# EAGLE library part 691402910006 (library Wuerth_Elektronik_eiCan_Terminal_Blocks_v2.0)
WR-TBL Serie 4029 - 2.54mm Screwless Horizontal Entry - 0.5mm2 Wires, 6 Pins
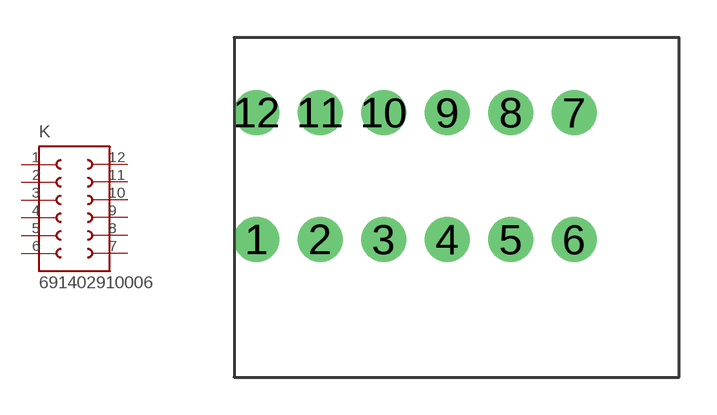
[diagram p206: symbol with the pads of 691402910006; footprint 691402910006]

Designator prefix K

## 691402910006  [691402910006]
1  1  pas
2  2  pas
3  3  pas
4  4  pas
5  5  pas
6  6  pas
7  7  pas
8  8  pas
9  9  pas
10  10  pas
11  11  pas
12  12  pas

## Footprint 691402910006 (pad centres in mm)
WR-TBL Serie 4029 - 2.54mm Screwless Horizontal Entry - 0.5mm2 Wires, 6 Pins
drill 1.2 round: 1 -7.62,0; 2 -5.08,0; 3 -2.54,0; 4 0,0; 5 2.54,0; 6 5.08,0; 7 5.08,5.08; 8 2.54,5.08; 9 0,5.08; 10 -2.54,5.08; 11 -5.08,5.08; 12 -7.62,5.08